# EAGLE library part CURRENT_MEAS_D_V01 (library current_meas)
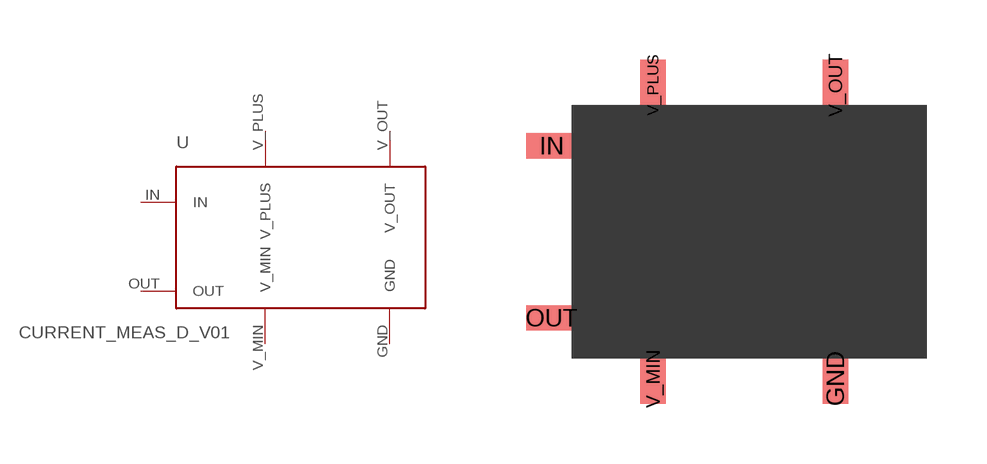
[diagram p0: symbol with the pads of CURRENT_MEAS_P_V01; footprint CURRENT_MEAS_P_V01]

Designator prefix -

## CURRENT_MEAS_D_V01  [CURRENT_MEAS_P_V01]
GND  GND  sup
IN  IN  in
OUT  OUT  out
V_MIN  V_MIN  pwr
V_OUT  V_OUT  out
V_PLUS  V_PLUS  pwr

## Footprint CURRENT_MEAS_P_V01 (pad centres in mm)
smd 0.635 x 1.27: GND -2.286,-0.508; V_MIN -6.858,-0.508; V_OUT -2.286,6.858; V_PLUS -6.858,6.858
smd 1.27 x 0.635: IN -9.398,5.334; OUT -9.398,1.016